# EAGLE library part AK4458 (library cdp)
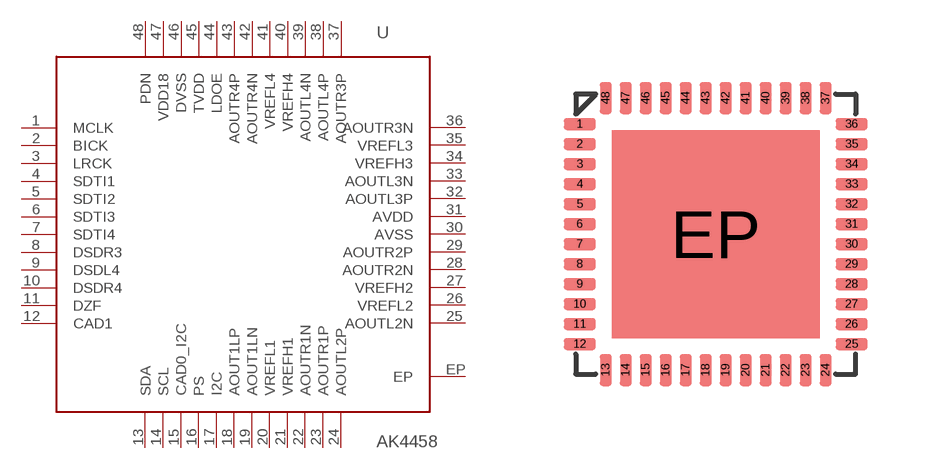
[diagram p41: symbol with the pads of QFN48_EP_AKM; footprint QFN48_EP_AKM]

Designator prefix U

## AK4458  [QFN48_EP_AKM]
1  MCLK
2  BICK
3  LRCK
4  SDTI1
5  SDTI2
6  SDTI3
7  SDTI4
8  DSDR3
9  DSDL4
10  DSDR4
11  DZF
12  CAD1
13  SDA
14  SCL
15  CAD0_I2C
16  PS
17  I2C
18  AOUT1LP
19  AOUT1LN
20  VREFL1
21  VREFH1
22  AOUTR1N
23  AOUTR1P
24  AOUTL2P
25  AOUTL2N
26  VREFL2
27  VREFH2
28  AOUTR2N
29  AOUTR2P
30  AVSS
31  AVDD
32  AOUTL3P
33  AOUTL3N
34  VREFH3
35  VREFL3
36  AOUTR3N
37  AOUTR3P
38  AOUTL4P
39  AOUTL4N
40  VREFH4
41  VREFL4
42  AOUTR4N
43  AOUTR4P
44  LDOE
45  TVDD
46  DVSS
47  VDD18
48  PDN
EP  EP

## Footprint QFN48_EP_AKM (pad centres in mm)
smd 0.8 x 0.3: 1 -3.4,2.75; 2 -3.4,2.25; 3 -3.4,1.75; 4 -3.4,1.25; 5 -3.4,0.75; 6 -3.4,0.25; 7 -3.4,-0.25; 8 -3.4,-0.75; 9 -3.4,-1.25; 10 -3.4,-1.75; 11 -3.4,-2.25; 12 -3.4,-2.75; 25 3.4,-2.75; 26 3.4,-2.25; 27 3.4,-1.75; 28 3.4,-1.25; 29 3.4,-0.75; 30 3.4,-0.25; 31 3.4,0.25; 32 3.4,0.75; 33 3.4,1.25; 34 3.4,1.75; 35 3.4,2.25; 36 3.4,2.75
smd 0.3 x 0.8: 13 -2.75,-3.4; 14 -2.25,-3.4; 15 -1.75,-3.4; 16 -1.25,-3.4; 17 -0.75,-3.4; 18 -0.25,-3.4; 19 0.25,-3.4; 20 0.75,-3.4; 21 1.25,-3.4; 22 1.75,-3.4; 23 2.25,-3.4; 24 2.75,-3.4; 37 2.75,3.4; 38 2.25,3.4; 39 1.75,3.4; 40 1.25,3.4; 41 0.75,3.4; 42 0.25,3.4; 43 -0.25,3.4; 44 -0.75,3.4; 45 -1.25,3.4; 46 -1.75,3.4; 47 -2.25,3.4; 48 -2.75,3.4
smd 5.2 x 5.2: EP 0,0